# Altium schematic symbol library BSS138-7-F.SchLib: 1 symbol
Pins are listed as number, name and electrical type; pins without a type are passive.

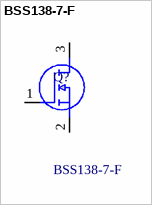
[diagram p0: symbol BSS138-7-F]

## BSS138-7-F
designator Q?
MULTICOMP - BSS138-7-F - MOSFET, N CHANNEL, 50V, 1.4OHM, 200mA, SOT-23-3; Manufacturer_Name: Multicomp Pro; Geometry.Height: 1.2mm; Manufacturer_Part_Number: BSS138-7-F; Mouser Part Number: *; Mouser Price/Stock: *; Arrow Part Number: *; Arrow Price/Stock: *; Datasheet Link: https://componentsearchengine.com/Datasheets/2/BSS138-7-F.pdf
footprint BSS1387F
pins: 1 G, 2 S, 3 D